# EAGLE library part MCP2551-I_P (library MCP2551-I_P)
High Speed CAN Transceiver,MCP2551-I/P Microchip MCP2551-I/P, CAN Transceiver 1-channel ISO 11898, 8-Pin PDIP Source: Datasheet <http://uk.rs-online.com/web/p/products/0402920>
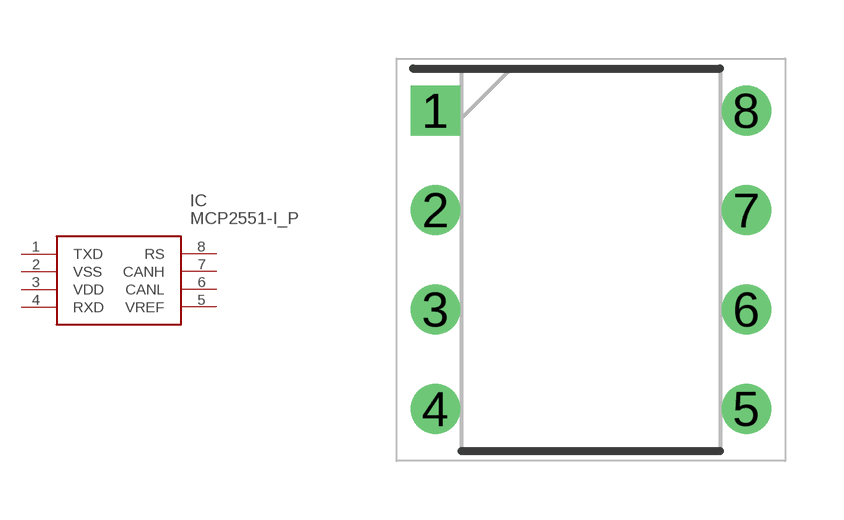
[diagram p0: symbol with the pads of DIP794W56P254L946H432Q8N; footprint DIP794W56P254L946H432Q8N]

Designator prefix IC

## MCP2551-I_P (Allied_Number: 70045402; Description: High Speed CAN Transceiver,MCP2551-I/P Microchip MCP2551-I/P, CAN Transceiver 1-channel ISO 11898, 8-Pin PDIP; Height: 4.32mm; Manufacturer_Name: Microchip; Manufacturer_Part_Number: MCP2551-I/P; RS_Part_Number: 0402920; RS_Price-Stock: http://uk.rs-online.com/web/p/products/0402920)  [DIP794W56P254L946H432Q8N]
1  TXD
2  VSS
3  VDD
4  RXD
5  VREF
6  CANL
7  CANH
8  RS

## Footprint DIP794W56P254L946H432Q8N (pad centres in mm)
8 pdip
drill 0.76 pad 1.16 square: 1 -3.97,3.81
drill 0.76 pad 1.16: 2 -3.97,1.27; 3 -3.97,-1.27; 4 -3.97,-3.81; 5 3.97,-3.81; 6 3.97,-1.27; 7 3.97,1.27; 8 3.97,3.81